# Altium schematic symbol library Connectors-Plug.SchLib: 1 symbol
Pins are listed as number, name and electrical type; pins without a type are passive.

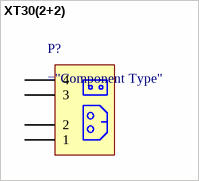
[diagram p0: symbol XT30(2+2)]

## XT30(2+2)
designator P?
pins: 1, 2, 3, 4